# EAGLE library part HEADER_20P (library Public)
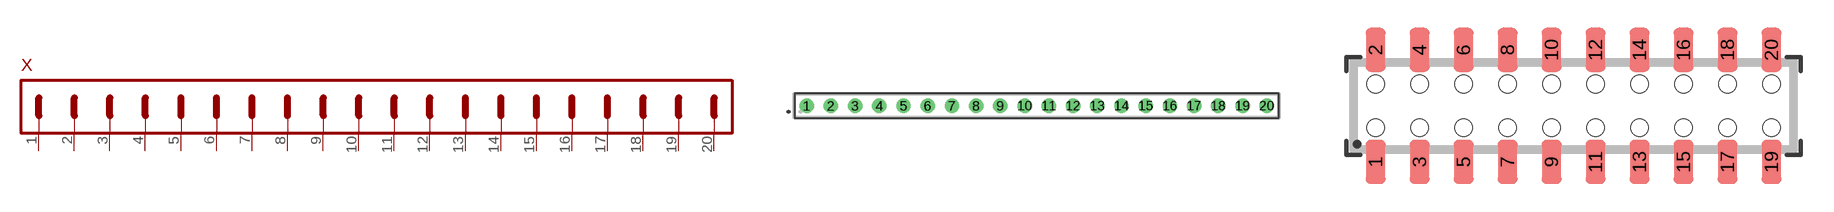
[diagram p189: symbol with the pads of HEADER_20P_1ROW_RM2.54MM_THT; footprints HEADER_20P_1ROW_RM2.54MM_THT, HEADER_20P_2ROW_RM2.0MM_SMD_WUERTH_62132021821]

Designator prefix X

## HEADER_20P(RM2.54MM_1ROW_THT)  [HEADER_20P_1ROW_RM2.54MM_THT]
1  PIN1
2  PIN2
3  PIN3
4  PIN4
5  PIN5
6  PIN6
7  PIN7
8  PIN8
9  PIN9
10  PIN10
11  PIN11
12  PIN12
13  PIN13
14  PIN14
15  PIN15
16  PIN16
17  PIN17
18  PIN18
19  PIN19
20  PIN20

## HEADER_20P(WR-PHD_2.0MM_BOTTOM_ENTRY) (ID: 62132021821)  [HEADER_20P_2ROW_RM2.0MM_SMD_WUERTH_62132021821]
Pads as for HEADER_20P_1ROW_RM2.54MM_THT

## HEADER_20P(RM2.00MM_2ROW_SMD_HORIZONTAL) (ID: 621320284521)  [HEADER_20P_2ROW_RM2.00MM_SMD_HORIZONTAL_WUERTH_621320284521]
Pads as for HEADER_20P_1ROW_RM2.54MM_THT

## Footprint HEADER_20P_1ROW_RM2.54MM_THT (pad centres in mm)
drill 1: 1 -24.13,0; 2 -21.59,0; 3 -19.05,0; 4 -16.51,0; 5 -13.97,0; 6 -11.43,0; 7 -8.89,0; 8 -6.35,0; 9 -3.81,0; 10 -1.27,0; 11 1.27,0; 12 3.81,0; 13 6.35,0; 14 8.89,0; 15 11.43,0; 16 13.97,0; 17 16.51,0; 18 19.05,0; 19 21.59,0; 20 24.13,0

## Footprint HEADER_20P_2ROW_RM2.0MM_SMD_WUERTH_62132021821 (pad centres in mm)
smd 0.9 x 2: 1 -9,-2.55; 2 -9,2.55; 3 -7,-2.55; 4 -7,2.55; 5 -5,-2.55; 6 -5,2.55; 7 -3,-2.55; 8 -3,2.55; 9 -1,-2.55; 10 -1,2.55; 11 1,-2.55; 12 1,2.55; 13 3,-2.55; 14 3,2.55; 15 5,-2.55; 16 5,2.55; 17 7,-2.55; 18 7,2.55; 19 9,-2.55; 20 9,2.55
hole 0.8 at -5,1
hole 0.8 at -5,-1
hole 0.8 at -3,1
hole 0.8 at -3,-1
hole 0.8 at -1,1
hole 0.8 at -1,-1
hole 0.8 at 1,1
hole 0.8 at 1,-1
hole 0.8 at 3,1
hole 0.8 at 5,1
hole 0.8 at 3,-1
hole 0.8 at 5,-1
hole 0.8 at -7,-1
hole 0.8 at -9,-1
hole 0.8 at -7,1
hole 0.8 at -9,1
hole 0.8 at 7,1
hole 0.8 at 9,1
hole 0.8 at 7,-1
hole 0.8 at 9,-1

## Footprint HEADER_20P_2ROW_RM2.00MM_SMD_HORIZONTAL_WUERTH_621320284521 (pad centres in mm)
smd 0.9 x 2.03: 1 9,-1.71; 2 9,1.71; 3 7,-1.71; 4 7,1.71; 5 5,-1.71; 6 5,1.71; 7 3,-1.71; 8 3,1.71; 9 1,-1.71; 10 1,1.71; 11 -1,-1.71; 12 -1,1.71; 13 -3,-1.71; 14 -3,1.71; 15 -5,-1.71; 16 -5,1.71; 17 -7,-1.71; 18 -7,1.71; 19 -9,-1.71; 20 -9,1.71
hole 1.2 at 8,-4.87
hole 1.2 at -8,-4.87